# Altium schematic symbol library Molex Microfit 3.0 12x1.SchLib: 1 symbol
Pins are listed as number, name and electrical type; pins without a type are passive.

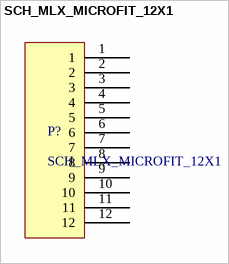
[diagram p0: symbol SCH_MLX_MICROFIT_12X1]

## SCH_MLX_MICROFIT_12X1
designator P?
footprint PCB_MLX_MICROFIT_12X1
pins: 1, 2, 3, 4, 5, 6, 7, 8, 9, 10, 11, 12